# Altium footprint library WCAP-PSHP.PcbLib: 7 footprints
Each footprint in its own frame and in the unit in brackets; x right, y up, seen from the top. Pads: shape width x height; smd on the part's side, far side on the other; paste and mask are expansions set on the pad; w line width, h text height; cw(c..) or ccw(c..) is an arc to the next point about the centre after c.
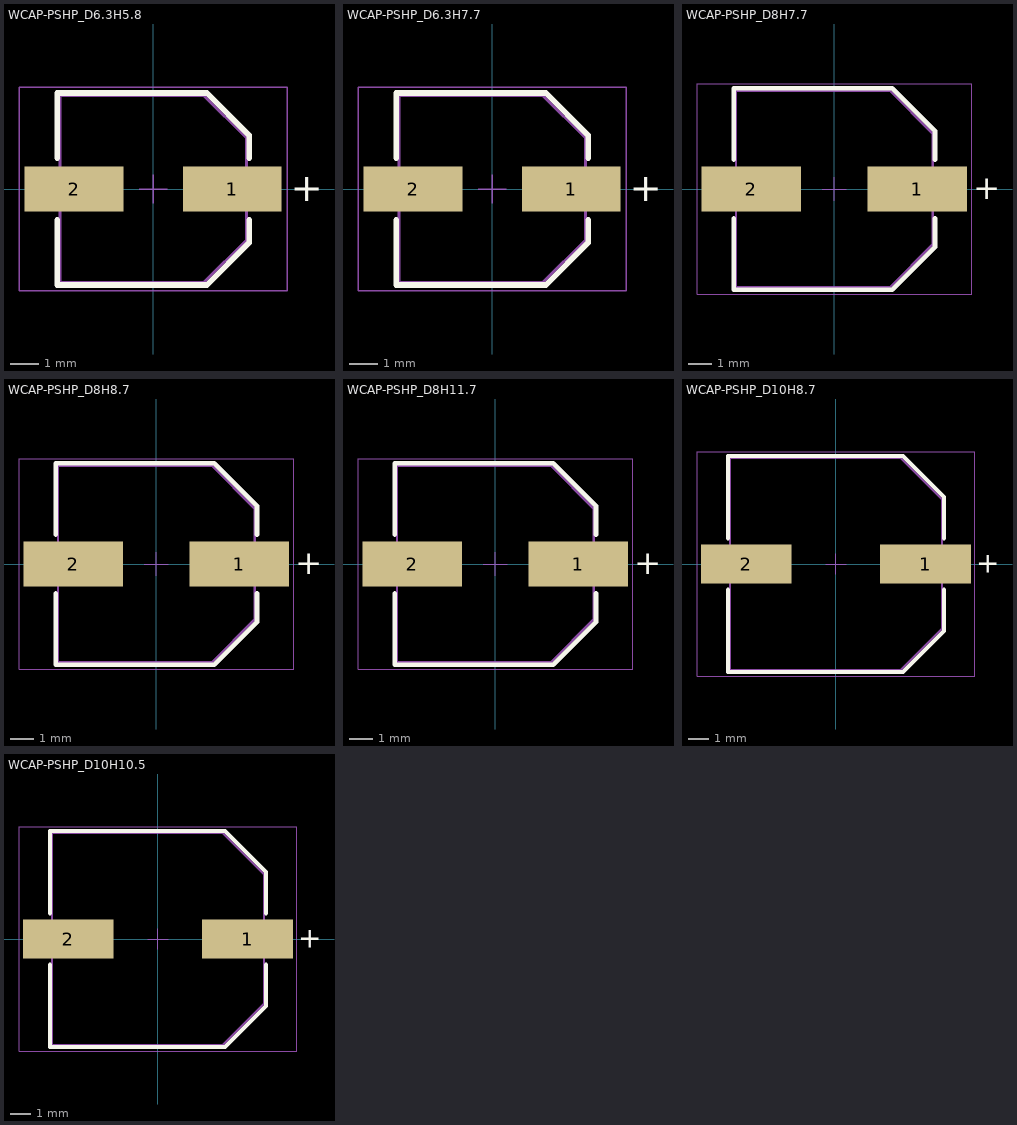
[diagram p0: the footprints below, top view; thin cyan lines are the x and y axes]

## WCAP-PSHP_D6.3H5.8 [mm] "Aluminium Polymer V-Chip SMT Capacitors, D6.3mm x L5.8mm"
height 5.8
pads (2):
  rect 3.5x1.6 smd: 1(2.8,0) 2(-2.8,0)
Top Overlay:
  lines w0.2: -3.4,-1.1 -3.4,-3.4 1.9,-3.4 3.4,-1.9 3.4,-1.1 ; -3.4,1.1 -3.4,3.4 1.9,3.4 3.4,1.9 3.4,1.1
  text "+" at 4.872,-0.428 h1
Top Designator:
  text ".Designator" at -7.498,-0.5 h1.5
Top Component Outline:
  lines w0.1: -3.3,-3.3 1.8,-3.3 3.3,-1.8 3.3,1.8 1.8,3.3 -3.3,3.3 -3.3,-3.3
Top 3D Body:
  lines w0.1: -3.3,-3.3 1.8,-3.3 3.3,-1.8 3.3,1.8 1.8,3.3 -3.3,3.3 -3.3,-3.3
Top Courtyard:
  lines w0.05: -0.5,0 0.5,0 ; 0,-0.5 0,0.5 ; -4.75,-3.6 -4.75,3.6 4.75,3.6 4.75,-3.6 -4.75,-3.6
3D body "6.3x5.8x2.2.stp": height 5.8, standoff 0, extent -3.65,-3.3 3.65,3.3

## WCAP-PSHP_D6.3H7.7 [mm] "Aluminium Polymer V-Chip SMT Capacitors, D6.3mm x L7.7mm"
height 7.7
pads (2):
  rect 3.5x1.6 smd: 1(2.8,0) 2(-2.8,0)
Top Overlay:
  lines w0.2: -3.4,-1.1 -3.4,-3.4 1.9,-3.4 3.4,-1.9 3.4,-1.1 ; -3.4,1.1 -3.4,3.4 1.9,3.4 3.4,1.9 3.4,1.1
  text "+" at 4.872,-0.428 h1
Top Designator:
  text ".Designator" at -7.498,-0.5 h1.5
Top Component Outline:
  lines w0.1: -3.3,-3.3 -3.3,3.3 1.8,3.3 3.3,1.8 3.3,-1.8 1.8,-3.3 -3.3,-3.3
Top 3D Body:
  lines w0.1: -3.3,-3.3 -3.3,3.3 1.8,3.3 3.3,1.8 3.3,-1.8 1.8,-3.3 -3.3,-3.3
Top Courtyard:
  lines w0.05: -0.5,0 0.5,0 ; 0,-0.5 0,0.5 ; -4.75,-3.6 -4.75,3.6 4.75,3.6 4.75,-3.6 -4.75,-3.6
3D body "6.3x7.7x2.2.stp": height 7.7, standoff 0, extent -3.65,-3.3 3.65,3.3

## WCAP-PSHP_D8H7.7 [mm] "Aluminium Polymer V-Chip SMT Capacitors, D8mm x L7.7mm"
height 7.7
pads (2):
  rect 4.2x1.9 smd: 1(3.5,0) 2(-3.5,0)
Top Overlay:
  lines w0.2: -4.25,-1.25 -4.25,-4.25 2.45,-4.25 4.25,-2.45 4.25,-1.25 ; -4.25,1.25 -4.25,4.25 2.45,4.25 4.25,2.45 4.25,1.25
  text "+" at 5.872,-0.428 h1
Top Designator:
  text ".Designator" at -7.498,-0.5 h1.5
Top Component Outline:
  lines w0.1: -4.15,-4.15 2.35,-4.15 4.15,-2.35 4.15,2.35 2.35,4.15 -4.15,4.15 -4.15,-4.15
Top 3D Body:
  lines w0.1: -4.15,-4.15 2.35,-4.15 4.15,-2.35 4.15,2.35 2.35,4.15 -4.15,4.15 -4.15,-4.15
Top Courtyard:
  lines w0.05: -0.5,0 0.5,0 ; 0,-0.5 0,0.5 ; -5.8,-4.45 -5.8,4.45 5.8,4.45 5.8,-4.45 -5.8,-4.45
3D body "8x7.7x3.1.stp": height 7.7, standoff 0, extent -4.5,-4.15 4.5,4.15

## WCAP-PSHP_D8H8.7 [mm] "Aluminium Polymer V-Chip SMT Capacitors, D8mm x L8.7mm"
height 8.7
pads (2):
  rect 4.2x1.9 smd: 1(3.5,0) 2(-3.5,0)
Top Overlay:
  lines w0.2: -4.25,-1.25 -4.25,-4.25 2.45,-4.25 4.25,-2.45 4.25,-1.25 ; -4.25,1.25 -4.25,4.25 2.45,4.25 4.25,2.45 4.25,1.25
  text "+" at 5.872,-0.428 h1
Top Designator:
  text ".Designator" at -7.498,-0.5 h1.5
Top Component Outline:
  lines w0.1: -4.15,-4.15 -4.15,4.15 2.35,4.15 4.15,2.35 4.15,-2.35 2.35,-4.15 -4.15,-4.15
Top 3D Body:
  lines w0.1: -4.15,-4.15 -4.15,4.15 2.35,4.15 4.15,2.35 4.15,-2.35 2.35,-4.15 -4.15,-4.15
Top Courtyard:
  lines w0.05: -0.5,0 0.5,0 ; 0,-0.5 0,0.5 ; -5.8,-4.45 5.8,-4.45 5.8,4.45 -5.8,4.45 -5.8,-4.45
3D body "8x8.7x3.1.stp": height 8.7, standoff 0, extent -4.5,-4.15 4.5,4.15

## WCAP-PSHP_D8H11.7 [mm] "Aluminium Polymer V-Chip SMT Capacitors, D8mm x L11.7mm"
height 11.7
pads (2):
  rect 4.2x1.9 smd: 1(3.5,0) 2(-3.5,0)
Top Overlay:
  lines w0.2: -4.25,-1.25 -4.25,-4.25 2.45,-4.25 4.25,-2.45 4.25,-1.25 ; -4.25,1.25 -4.25,4.25 2.45,4.25 4.25,2.45 4.25,1.25
  text "+" at 5.872,-0.428 h1
Top Designator:
  text ".Designator" at -7.498,-0.5 h1.5
Top Component Outline:
  lines w0.1: -4.15,-4.15 2.35,-4.15 4.15,-2.35 4.15,2.35 2.35,4.15 -4.15,4.15 -4.15,-4.15
Top 3D Body:
  lines w0.1: -4.15,-4.15 2.35,-4.15 4.15,-2.35 4.15,2.35 2.35,4.15 -4.15,4.15 -4.15,-4.15
Top Courtyard:
  lines w0.05: -0.5,0 0.5,0 ; 0,-0.5 0,0.5 ; -5.8,-4.45 -5.8,4.45 5.8,4.45 5.8,-4.45 -5.8,-4.45
3D body "8x11.7x3.1.stp": height 11.7, standoff 0, extent -4.5,-4.15 4.5,4.15

## WCAP-PSHP_D10H8.7 [mm] "Aluminium Polymer V-Chip SMT Capacitors, D10mm x L8.7mm"
height 8.7
pads (2):
  rect 4.4x1.9 smd: 1(4.35,0) 2(-4.35,0)
Top Overlay:
  lines w0.2: -5.25,-1.25 -5.25,-5.25 3.25,-5.25 5.25,-3.25 5.25,-1.25 ; -5.25,1.25 -5.25,5.25 3.25,5.25 5.25,3.25 5.25,1.25
  text "+" at 6.822,-0.428 h1
Top Designator:
  text ".Designator" at -7.498,-0.5 h1.5
Top Component Outline:
  lines w0.1: -5.15,-5.15 -5.15,5.15 3.15,5.15 5.15,3.15 5.15,-3.15 3.15,-5.15 -5.15,-5.15
Top 3D Body:
  lines w0.1: -5.15,-5.15 -5.15,5.15 3.15,5.15 5.15,3.15 5.15,-3.15 3.15,-5.15 -5.15,-5.15
Top Courtyard:
  lines w0.05: -0.5,0 0.5,0 ; 0,-0.5 0,0.5 ; -6.75,-5.45 -6.75,5.45 6.75,5.45 6.75,-5.45 -6.75,-5.45
3D body "10x8.7x4.5.stp": height 8.7, standoff 0, extent -5.5,-5.15 5.5,5.15

## WCAP-PSHP_D10H10.5 [mm] "Aluminium Polymer V-Chip SMT Capacitors, D10mm x L10.5mm"
height 10.5
pads (2):
  rect 4.4x1.9 smd: 1(4.35,0) 2(-4.35,0)
Top Overlay:
  lines w0.2: -5.25,-1.25 -5.25,-5.25 3.25,-5.25 5.25,-3.25 5.25,-1.25 ; -5.25,1.25 -5.25,5.25 3.25,5.25 5.25,3.25 5.25,1.25
  text "+" at 6.822,-0.428 h1
Top Designator:
  text ".Designator" at -7.498,-0.5 h1.5
Top Component Outline:
  lines w0.1: -5.15,-5.15 3.15,-5.15 5.15,-3.15 5.15,3.15 3.15,5.15 -5.15,5.15 -5.15,-5.15
Top 3D Body:
  lines w0.1: -5.15,-5.15 3.15,-5.15 5.15,-3.15 5.15,3.15 3.15,5.15 -5.15,5.15 -5.15,-5.15
Top Courtyard:
  lines w0.05: -0.5,0 0.5,0 ; 0,-0.5 0,0.5 ; -6.75,-5.45 6.75,-5.45 6.75,5.45 -6.75,5.45 -6.75,-5.45
3D body "10x10.5x4.5.stp": height 10.5, standoff 0, extent -5.5,-5.15 5.5,5.15